# Altium footprint library HLK-V20 通用PCB封装.PcbLib: 1 footprints
Each footprint in its own frame and in the unit in brackets; x right, y up, seen from the top. Pads: shape width x height; smd on the part's side, far side on the other; paste and mask are expansions set on the pad; w line width, h text height; cw(c..) or ccw(c..) is an arc to the next point about the centre after c.
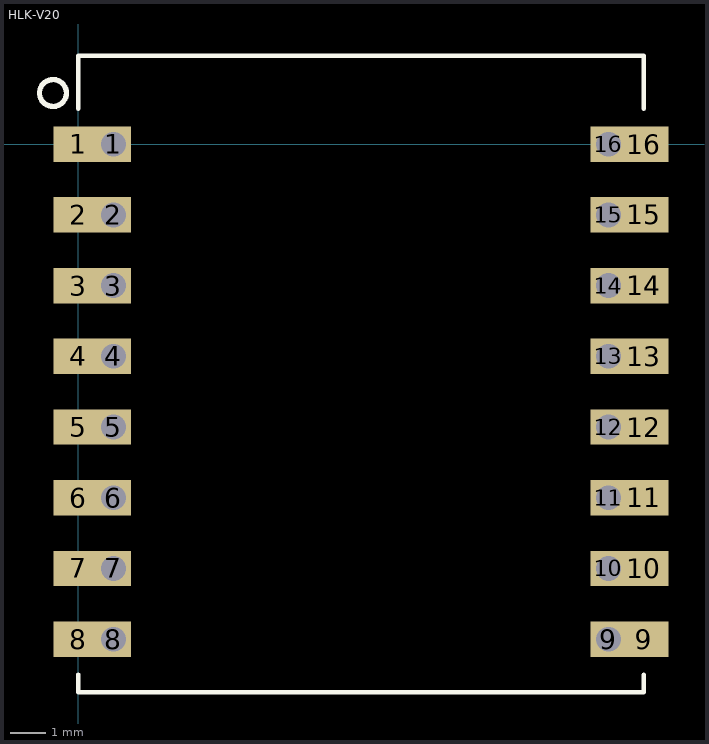
[diagram p0: the footprint, top view; thin cyan lines are the x and y axes]

## HLK-V20 [mm]
pads (32):
  rect 1.4x1 smd: 1(0,0) 2(0,-2) 3(0,-4) 4(0,-6) 5(0,-8) 6(0,-10) 7(0,-12) 8(0,-14) 9(16,-14) 10(16,-12) 11(16,-10) 12(16,-8) 13(16,-6) 14(16,-4) 15(16,-2) 16(16,0)
  rect 1x1 hole 0.7: 1(1,0) 2(1,-2) 3(1,-4) 4(1,-6) 5(1,-8) 6(1,-10) 7(1,-12) 8(1,-14) 9(15,-14) 10(15,-12) 11(15,-10) 12(15,-8) 13(15,-6) 14(15,-4) 15(15,-2) 16(15,0)
Top Overlay:
  circle w0.15: c-0.711,1.448 r0.381
  lines w0.127: 0,-15 0,-15.5 16,-15.5 ; 0,1 0,2.5 16,2.5 16,1 ; 16,-15 16,-15.5 ; 16,-15.5 16,-15.5